# EAGLE library part CAOAP (library 0000)
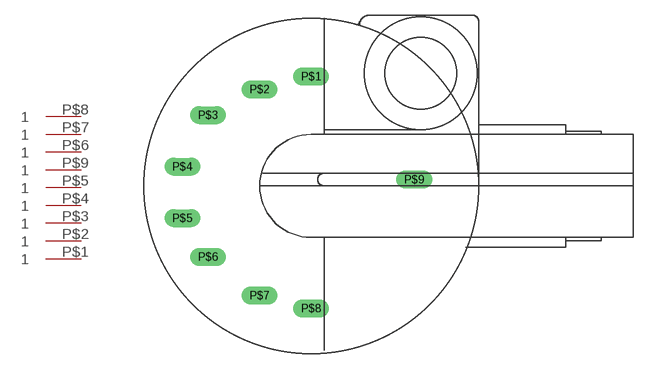
[diagram p0: symbol with the pads of CAOAP; footprint CAOAP]

Designator prefix -; gates G$1=CAOAP G$2=CAOAP G$3=CAOAP G$4=CAOAP G$5=CAOAP G$6=CAOAP G$7=CAOAP G$8=CAOAP G$9=CAOAP

## CAOAPC  [CAOAP]
P$1  G$1:1  pas
P$2  G$2:1  pas
P$3  G$3:1  pas
P$4  G$4:1  pas
P$5  G$5:1  pas
P$6  G$6:1  pas
P$7  G$7:1  pas
P$8  G$8:1  pas
P$9  G$9:1  pas

## Footprint CAOAP (pad centres in mm)
drill 1 pad 1.778 long: P$1 -2.54,10.16; P$2 -7.62,8.89; P$3 -12.7,6.35; P$4 -15.24,1.27; P$5 -15.24,-3.81; P$6 -12.7,-7.62; P$7 -7.62,-11.43; P$8 -2.54,-12.7; P$9 7.62,0